# Altium schematic symbol library Brushed_DC_Motor_Drivers.SchLib: 1 symbol
Pins are listed as number, name and electrical type; pins without a type are passive.

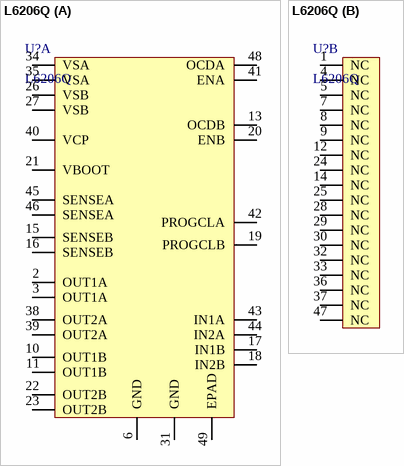
[diagram p0: symbol L6206Q]

## L6206Q
designator U?
DMOS dual full bridge driver
footprint QFN48 7X7_M (48脚，长x宽x高：7x7x1mm，脚距：0.5mm)
footprint QFN48 7X7_L (48脚，长x宽x高：7x7x1mm，脚距：0.5mm)
footprint QFN48 7X7_N (48脚，长x宽x高：7x7x1mm，脚距：0.5mm)
part A pins: 2 OUT1A, 3 OUT1A, 6 GND, 10 OUT1B, 11 OUT1B, 13 OCDB, 15 SENSEB, 16 SENSEB, 17 IN1B, 18 IN2B, 19 PROGCLB, 20 ENB, 21 VBOOT, 22 OUT2B, 23 OUT2B, 26 VSB, 27 VSB, 31 GND, 34 VSA, 35 VSA, 38 OUT2A, 39 OUT2A, 40 VCP, 41 ENA, 42 PROGCLA, 43 IN1A, 44 IN2A, 45 SENSEA, 46 SENSEA, 48 OCDA, 49 EPAD
part B pins: 1 NC, 4 NC, 5 NC, 7 NC, 8 NC, 9 NC, 12 NC, 14 NC, 24 NC, 25 NC, 28 NC, 29 NC, 30 NC, 32 NC, 33 NC, 36 NC, 37 NC, 47 NC